# Altium schematic symbol library Schlib_VIA_Labs.SchLib: 1 symbol
Pins are listed as number, name and electrical type; pins without a type are passive.

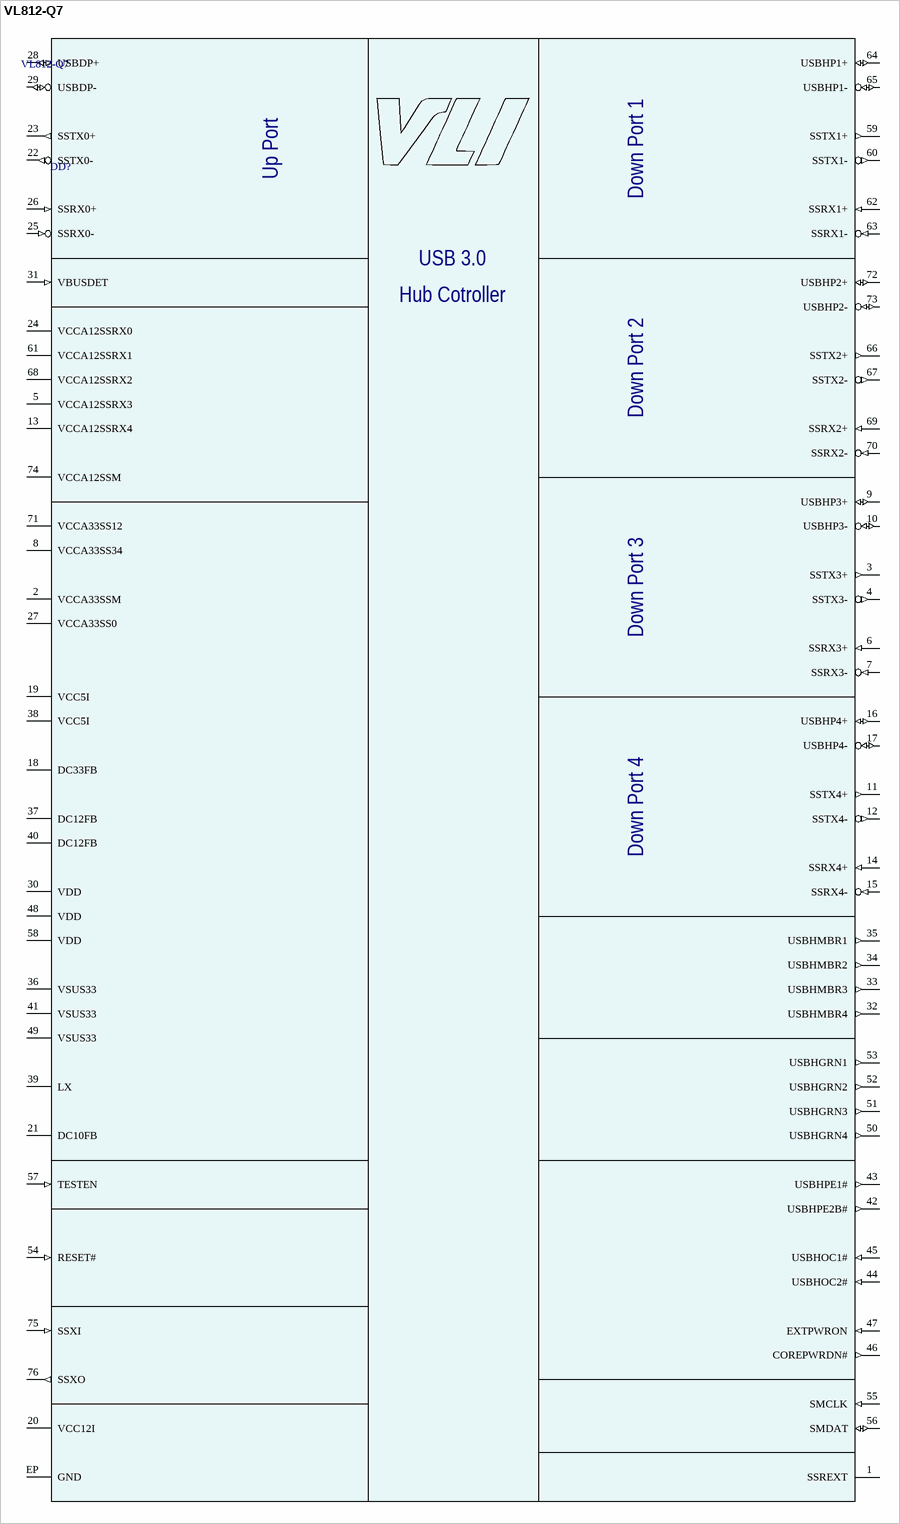
[diagram p0: symbol VL812-Q7]

## VL812-Q7
designator DD?
USB 3.0 Hub Controller; Manufacturer: VIA Labs.; Part Number: VL812-Q7; Package: QFN-76; Author: Sklyarov
footprint QFN76_VLI_0.4 (QFN, 76-Leads, Body 9,00x9,00mm, Pitch 0,40mm)
pins: 1 SSREXT, 2 VCCA33SSM (power), 3 SSTX3+ (out), 4 SSTX3- (out), 5 VCCA12SSRX3 (power), 6 SSRX3+ (in), 7 SSRX3- (in), 8 VCCA33SS34 (power), 9 USBHP3+ (io), 10 USBHP3- (io), 11 SSTX4+ (out), 12 SSTX4- (out), 13 VCCA12SSRX4 (power), 14 SSRX4+ (in), 15 SSRX4- (in), 16 USBHP4+ (io), 17 USBHP4- (io), 18 DC33FB (power), 19 VCC5I (power), 20 VCC12I (power), 21 DC10FB (hiz), 22 SSTX0- (out), 23 SSTX0+ (out), 24 VCCA12SSRX0 (power), 25 SSRX0- (in), 26 SSRX0+ (in), 27 VCCA33SS0 (power), 28 USBDP+ (io), 29 USBDP- (io), 30 VDD (power), 31 VBUSDET (in), 32 USBHMBR4 (out), 33 USBHMBR3 (out), 34 USBHMBR2 (out), 35 USBHMBR1 (out), 36 VSUS33 (power), 37 DC12FB (power), 38 VCC5I (power), 39 LX, 40 DC12FB (power), 41 VSUS33 (power), 42 USBHPE2B# (out), 43 USBHPE1# (out), 44 USBHOC2# (in), 45 USBHOC1# (in), 46 COREPWRDN# (out), 47 EXTPWRON (in), 48 VDD (power), 49 VSUS33 (power), 50 USBHGRN4 (out), 51 USBHGRN3 (out), 52 USBHGRN2 (out), 53 USBHGRN1 (out), 54 RESET# (in), 55 SMCLK (in), 56 SMDAT (io), 57 TESTEN (in), 58 VDD (power), 59 SSTX1+ (out), 60 SSTX1- (out), 61 VCCA12SSRX1 (power), 62 SSRX1+ (in), 63 SSRX1- (in), 64 USBHP1+ (io), 65 USBHP1- (io), 66 SSTX2+ (out), 67 SSTX2- (out), 68 VCCA12SSRX2 (power), 69 SSRX2+ (in), 70 SSRX2- (in), 71 VCCA33SS12 (power), 72 USBHP2+ (io), 73 USBHP2- (io), 74 VCCA12SSM (power), 75 SSXI (in), 76 SSXO (out), EP GND (power)
text: Up Port; Down Port 1; USB 3.0; Hub Cotroller; Down Port 2; Down Port 3; Down Port 4